# Altium schematic symbol library WE-SUKW.SchLib: 2 symbols
Pins are listed as number, name and electrical type; pins without a type are passive.

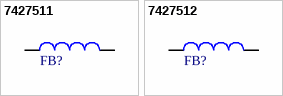
[diagram p0: symbols 7427511 to 7427512]

## 7427511
designator FB?, comment 416Ohm  (value not drawn)
WE-SUKW SMT EMI Suppression 5-Hole Ferrite Bead, 416Ohm, 5A; Manufacturer Part Number: 7427511; Manufacturer: Wurth Elektronik; DC Resistance Max: 11mOhm; Impedance @25MHz: 272Ohm; Impedance Max: 440Ohm; Impedance Max Test Condition: 100MHz; Category: Ferrites for PCB Assembly; Match Code: WE-SUKW; ComponentLink1Description: Website Link; ComponentLink1URL: https://www.we-online.com/redexpert/article/7427511?ad; ComponentLink2Description: Datasheet Link; ComponentLink2URL: https://www.we-online.com/redexpert/spec/7427511?ad; Mount: Surface Mount; Operating Temperature Max: 125°C; Operating Temperature Min: -40°C; Packaging: Tape and Reel; Length: 8mm; Width: 5mm; Height: 4.6mm; Impedance @100MHz: 416Ohm; Rated Current: 5A
footprint 7427511
simulation model 8050_7427511_416ohm
pins: 1, 2

## 7427512
designator FB?, comment 580Ohm  (value not drawn)
WE-SUKW SMT EMI Suppression 5-Hole Ferrite Bead, 580Ohm, 5A; Manufacturer Part Number: 7427512; Manufacturer: Wurth Elektronik; DC Resistance Max: 12mOhm; Impedance @25MHz: 425Ohm; Impedance Max: 700Ohm; Impedance Max Test Condition: 90MHz; Category: Ferrites for PCB Assembly; Match Code: WE-SUKW; ComponentLink1Description: Website Link; ComponentLink1URL: https://www.we-online.com/redexpert/article/7427512?ad; ComponentLink2Description: Datasheet Link; ComponentLink2URL: https://www.we-online.com/redexpert/spec/7427512?ad; Mount: Surface Mount; Operating Temperature Max: 125°C; Operating Temperature Min: -40°C; Packaging: Tape and Reel; Length: 11mm; Width: 5mm; Height: 4.65mm; Impedance @100MHz: 580Ohm; Rated Current: 5A
footprint 7427512
simulation model 11046_7427512_580ohm
pins: 1, 2